# Altium footprint library XTAL-HC49.PcbLib: 1 footprints
Each footprint in its own frame and in the unit in brackets; x right, y up, seen from the top. Pads: shape width x height; smd on the part's side, far side on the other; paste and mask are expansions set on the pad; w line width, h text height; cw(c..) or ccw(c..) is an arc to the next point about the centre after c.
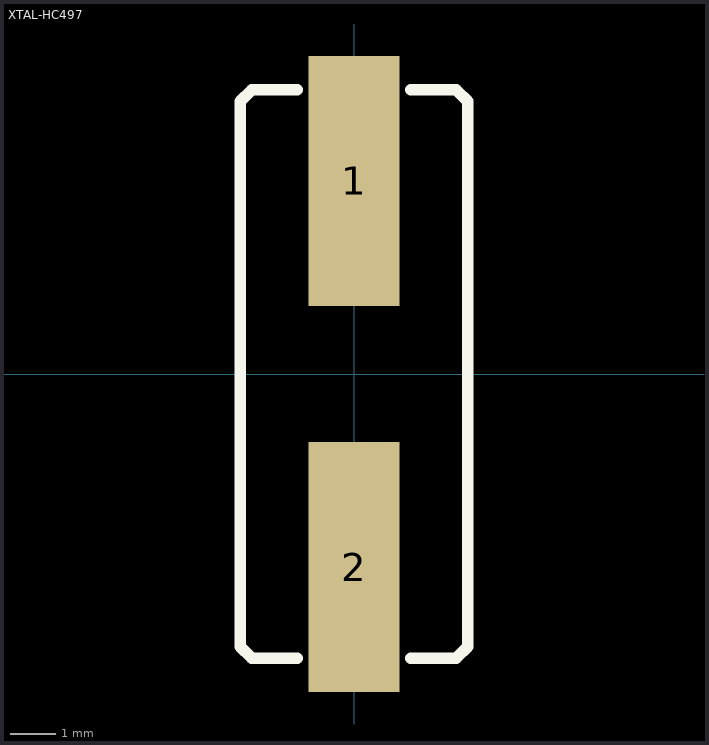
[diagram p0: the footprint, top view; thin cyan lines are the x and y axes]

## XTAL-HC497 [mm]
pads (2):
  rect 2x5.5 smd: 1(0,4.25) 2(0,-4.25)
Top Overlay:
  lines w0.254: -1.25,-6.25 -2.25,-6.25 -2.5,-6 -2.5,6 -2.25,6.25 -1.25,6.25 ; 1.25,-6.25 2.25,-6.25 2.5,-6 2.5,6 2.25,6.25 1.25,6.25